# Altium integrated library 3 Pin Terminal Block HDR 3.81MM THT RA 284513-3.IntLib: 1 symbol
Pins are listed as number, name and electrical type; pins without a type are passive.

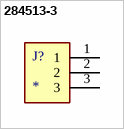
[diagram p0: symbol 284513-3]

## 284513-3
designator J?
3 Position 3.81 mm Pitch Green Right Angle Through Hole Terminal Block Header; MP: 284513-3; MF: TE Connectivity; Purchase-URL: https://pricing.snapeda.com/search/part/284513-3/?ref=eda; Package: None; EU_RoHS_Compliance: Compliant; Price: None; Availability: In Stock; Value: *; Check_prices: https://www.snapeda.com/parts/284513-3/TE+Connectivity+AMP+Connectors/view-part/?ref=eda; SnapEDA_Link: https://www.snapeda.com/parts/284513-3/TE+Connectivity+AMP+Connectors/view-part/?ref=snap
footprint TE_284513-3
pins: 1, 2, 3